# Altium footprint library PCB - LEADED - SOT-23 - ANALOG TSOT-23-5 UJ-5.PCBLIB: 1 footprints
Each footprint in its own frame and in the unit in brackets; x right, y up, seen from the top. Pads: shape width x height; smd on the part's side, far side on the other; paste and mask are expansions set on the pad; w line width, h text height; cw(c..) or ccw(c..) is an arc to the next point about the centre after c.
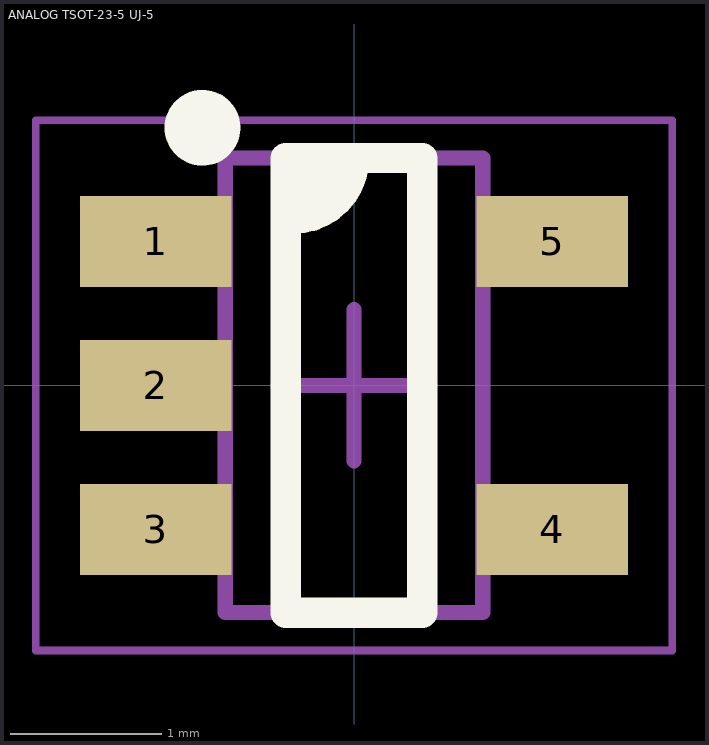
[diagram p0: the footprint, top view; thin cyan lines are the x and y axes]

## ANALOG TSOT-23-5 UJ-5 [mm] "SOT23, 5-Leads, Body 2.90x1.60mm, Pitch 0.95mm, IPC Medium Density"
height 1
pads (5):
  rect 1x0.6 smd: 1(-1.31,0.95) 2(-1.31,0) 3(-1.31,-0.95) 4(1.31,-0.95) 5(1.31,0.95)
Top Overlay:
  circle w0.25: c-1,1.7 r0.125
  region: -0.45,1.5 0,1.5 0,1.4 -0.3,1.1 -0.45,1.1
  lines w0.2: -0.45,1.1 -0.4,1.1 ccw(c-0.4,1.5) 0,1.5 ; -0.45,-1.5 0.45,-1.5 0.45,1.5 -0.45,1.5 -0.45,-1.5
Mechanical 13:
  lines w0.1: -0.85,-1.5 0.85,-1.5 0.85,1.5 -0.85,1.5 -0.85,-1.5
Mechanical 15:
  lines w0.05: -2.1,-1.75 2.1,-1.75 2.1,1.75 -2.1,1.75 -2.1,-1.75
Mechanical 2 (Mech9):
  lines w0.1: -0.5,0 0.5,0 ; 0,-0.5 0,0.5
3D body "Analog - TSOT-23-5 UJ-5.step": height 1, standoff 0, extent -1.4,-1.449 1.4,1.449